# EAGLE library part E19-915MS1W (library SparkFun-RF)
Chengdu Ebyte E19-915M30S - 915M LoRa (FSK) TRX Using SX1276 This is a 915 MHz LoRa (or optionally FSK) modulated transciver bassed on the Semtech SX1276. It has a high ouput power of 1W an a pre-installed U.FL connector. Can be used with LoRa WAN with DIO0, DIO1, and DIO2 hooked up to controller interrupt inputs SparkFun Products: SAMD21 Pro RF 1W <https://www.sparkfun.com/products/15034>
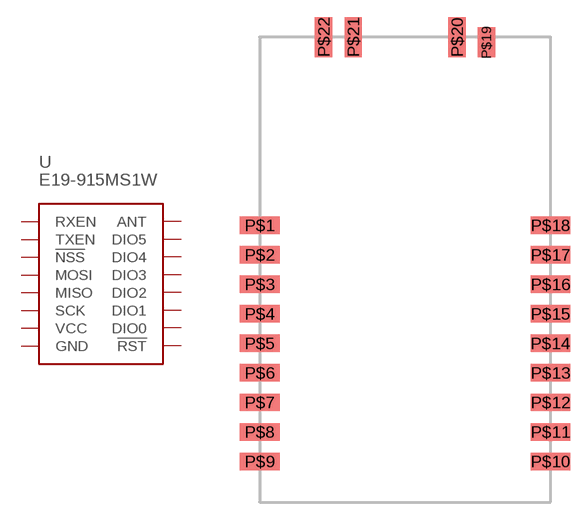
[diagram p34: symbol with the pads of E19-915MS1W; footprint E19-915MS1W]

Designator prefix U

## E19-915MS1W (PROD_ID: IC-14076)  [E19-915MS1W]
P$1  GND
P$2  DIO5
P$3  DIO4
P$4  DIO3
P$5  DIO2
P$6  DIO1
P$7  DIO0
P$8  !RST
P$9  GND
P$10  GND
P$11  VCC
P$12  SCK
P$13  MISO
P$14  MOSI
P$15  !NSS
P$16  TXEN
P$17  RXEN
P$18  GND
P$19  ANT
P$20  GND
P$21  GND
P$22  GND

## Footprint E19-915MS1W (pad centres in mm)
E19-915M30S - 1W 915M TRX Using SX1276 Specifications: Pin count: 22 Pin pitch: Varies Area: 1.15 in x 1.65 in Datasheet referenced for footprint <https://cdn.sparkfun.com/assets/d/8/3/6/e/E19__915M30S__Datasheet_EN_v1.0.pdf> Example device(s): SAMD21 ProRF 1W
smd 3.4 x 1.5: P$1 0,23.82; P$2 0,21.28; P$3 0,18.74; P$4 0,16.2; P$5 0,13.66; P$6 0,11.12; P$7 0,8.58; P$8 0,6.04; P$9 0,3.5; P$10 25,3.5; P$11 25,6.04; P$12 25,8.58; P$13 25,11.12; P$14 24.98,13.66; P$15 25,16.2; P$16 25,18.74; P$17 25,21.28; P$18 25,23.82
smd 1.5 x 2.55: P$19 19.5,39.568
smd 1.5 x 3.4: P$20 16.96,40; P$21 8.04,40; P$22 5.5,40